# Altium footprint library CR2032_HOLDER_SMD.PcbLib: 1 footprints
Each footprint in its own frame and in the unit in brackets; x right, y up, seen from the top. Pads: shape width x height; smd on the part's side, far side on the other; paste and mask are expansions set on the pad; w line width, h text height; cw(c..) or ccw(c..) is an arc to the next point about the centre after c.
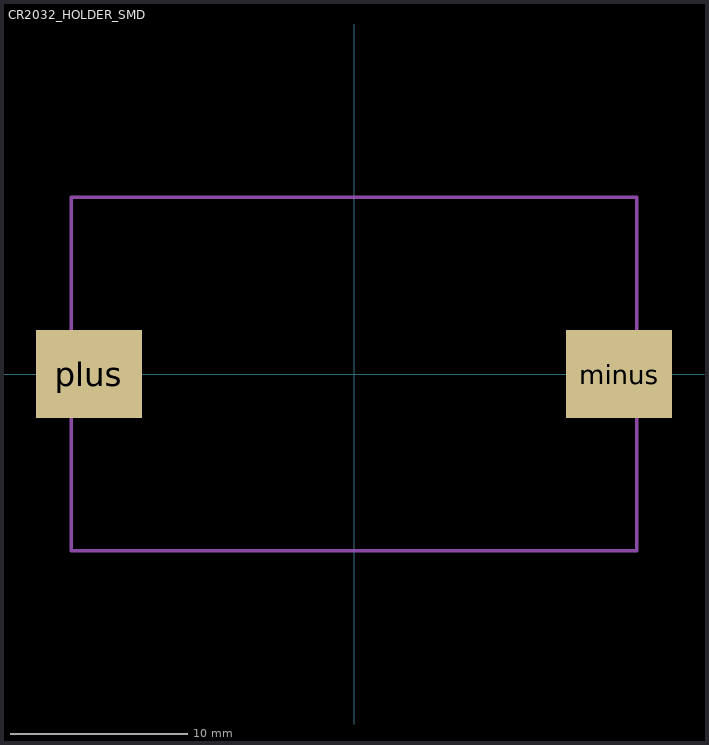
[diagram p0: the footprint, top view; thin cyan lines are the x and y axes]

## CR2032_HOLDER_SMD [mm]
pads (2):
  rect 6x5 smd: minus(15,0) plus(-15,0)
Mechanical 13:
  lines w0.2: -15.998,-10 -15.998,10 16.002,10 16.002,-10 -15.998,-10
  text ".Designator" at -2.667,-2.159 h2.5
3D body: height 5.3, standoff 0, extent -15.998,-10 16.002,10